# Altium schematic symbol library SwipingCard.SchLib: 13 symbols
Pins are listed as number, name and electrical type; pins without a type are passive.

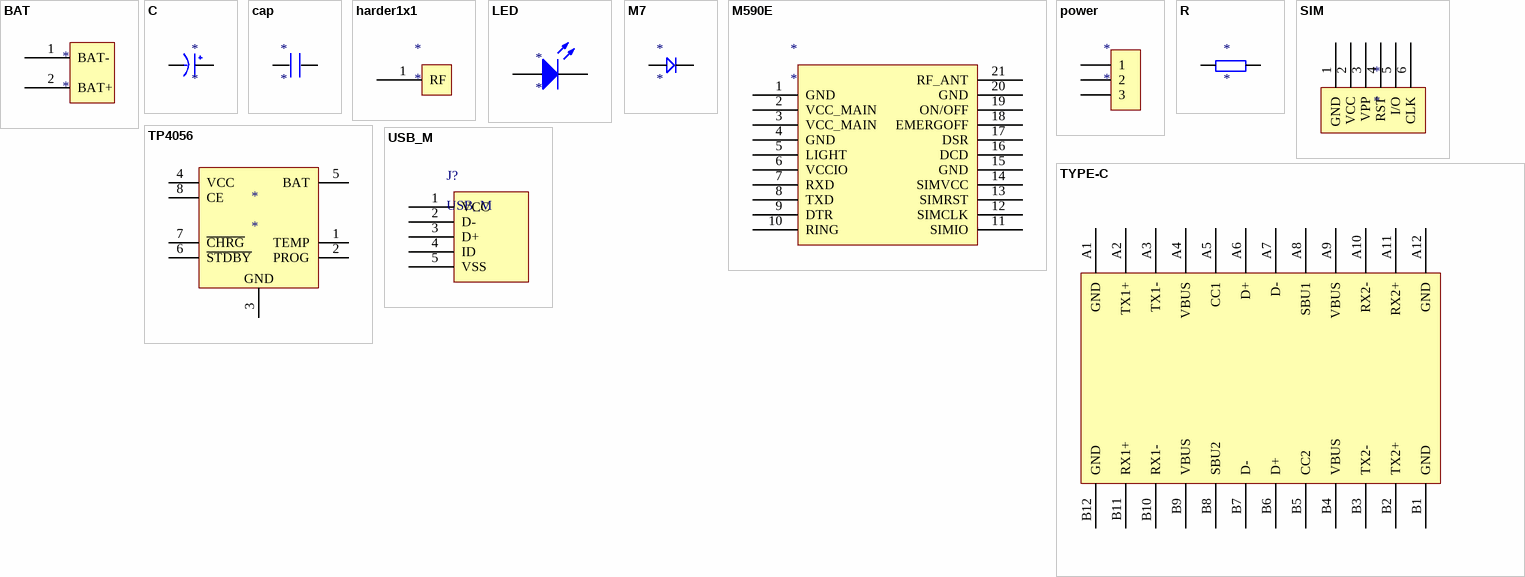
[diagram p0: symbols BAT to USB_M]

## BAT
designator *
footprint HEADER1*2
pins: 1 BAT-, 2 BAT+

## C
designator *
footprint 1206 (钽电容)
pins: 1 VCC, 2 GND

## cap
designator *
footprint 0603
pins: 1, 2

## harder1x1
designator *
footprint harder1x1
pins: 1 RF

## LED
designator *
footprint 0805
pins: 1 A, 2 K

## M7
designator *
footprint DIODE_SOP
pins: 1, 2

## M590E
designator *
footprint M590E
pins: 1 GND, 2 VCC_MAIN, 3 VCC_MAIN, 4 GND, 5 LIGHT, 6 VCCIO, 7 RXD, 8 TXD, 9 DTR, 10 RING, 11 SIMIO, 12 SIMCLK, 13 SIMRST, 14 SIMVCC, 15 GND, 16 DCD, 17 DSR, 18 EMERGOFF, 19 ON/OFF, 20 GND, 21 RF_ANT

## power
designator *
footprint HARDER1*3
pins: 1, 2, 3

## R
designator *
footprint 0603
pins: 1, 2

## SIM
designator *
footprint microSIM
footprint nanoSIM
pins: 1 GND, 2 VCC, 3 VPP, 4 RST, 5 I/O, 6 CLK

## TP4056
designator *
footprint TP4056
pins: 1 TEMP, 2 PROG, 3 GND, 4 VCC, 5 BAT, 6 ~{STDBY}, 7 ~{CHRG}, 8 CE

## TYPE-C
designator *
footprint TYPE-C
pins: A1 GND, A2 TX1+, A3 TX1-, A4 VBUS, A5 CC1, A6 D+, A7 D-, A8 SBU1, A9 VBUS, A10 RX2-, A11 RX2+, A12 GND, B1 GND, B2 TX2+, B3 TX2-, B4 VBUS, B5 CC2, B6 D+, B7 D-, B8 SBU2, B9 VBUS, B10 RX1-, B11 RX1+, B12 GND

## USB_M
designator J?
MicroUSB接口
footprint USB_MICRO - duplicate (USB方孔)
footprint micro
pins: 1 VCC, 2 D- , 3 D+, 4 ID, 5 VSS